# EAGLE library part GAS_SENSOR (library Qtechknow)
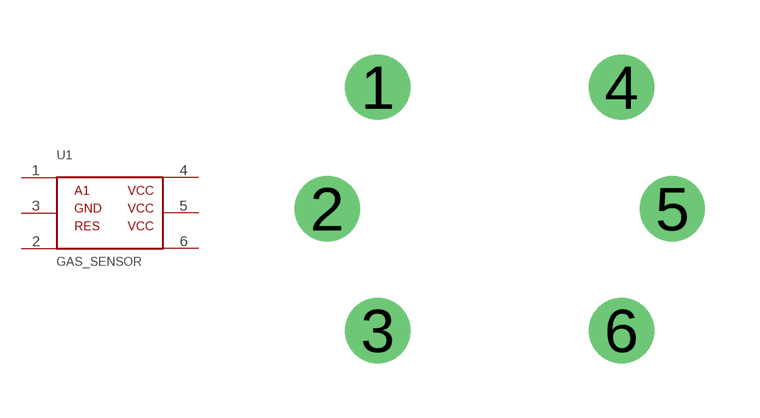
[diagram p2: symbol with the pads of GAS_SENSOR; footprint GAS_SENSOR]

Designator prefix -

## GAS_SENSOR  [GAS_SENSOR]
1  -  in
2  GND  pwr
3  RES
4  VCC1  pwr
5  VCC2  pwr
6  VCC3  pwr

## Footprint GAS_SENSOR (pad centres in mm)
drill 1.2: 1 -3.35,3.35; 2 -4.75,0; 3 -3.35,-3.35; 4 3.35,3.35; 5 4.75,0; 6 3.35,-3.35